# EAGLE library part CON_2X8 (library Custom_Library)
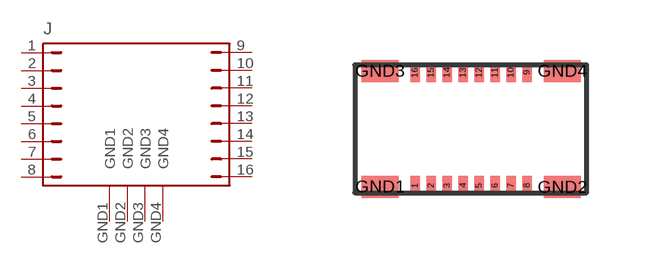
[diagram p26: symbol with the pads of CON_2X8; footprint CON_2X8]

Designator prefix J

## CON_2X8  [CON_2X8]
1  1  pas
2  2  pas
3  3  pas
4  4  pas
5  5  pas
6  6  pas
7  7  pas
8  8  pas
9  9  pas
10  10  pas
11  11  pas
12  12  pas
13  13  pas
14  14  pas
15  15  pas
16  16  pas
GND1  GND1
GND2  GND2
GND3  GND3
GND4  GND4

## Footprint CON_2X8 (pad centres in mm)
smd 0.23 x 0.475: 1 -1.39,-1.42; 2 -0.99,-1.42; 3 -0.59,-1.42; 4 -0.19,-1.42; 5 0.21,-1.42; 6 0.61,-1.42; 7 1.01,-1.42; 8 1.41,-1.42; 9 1.41,1.41; 10 1.01,1.41; 11 0.61,1.41; 12 0.21,1.41; 13 -0.19,1.41; 14 -0.59,1.41; 15 -0.99,1.41; 16 -1.39,1.41
smd 0.92 x 0.55: GND1 -2.27,-1.45; GND2 2.29,-1.46; GND3 -2.27,1.45; GND4 2.29,1.45